# EAGLE library part SIM_CARD_NANO_GLOBAL_CONNECTOR_TEC_SIM8050-6-0-14-01-A (library konekt)
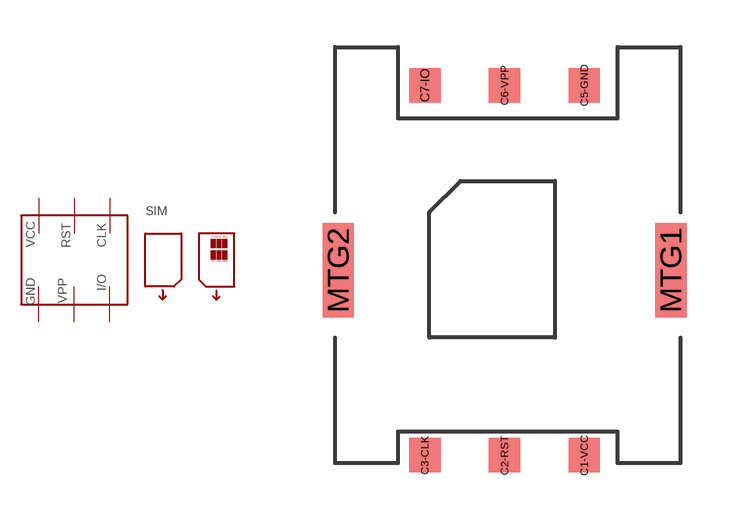
[diagram p3: symbol with the pads of SIM_CARD_NANO; footprint SIM_CARD_NANO]

Designator prefix SIM

## SIM_CARD_NANO_GLOBAL_CONNECTOR_TEC_SIM8050-6-0-14-01-A (MFG: Global Connector Technology; MPN: SIM8050-06-14-01-A)  [SIM_CARD_NANO]
C1-VCC  VCC
C2-RST  RST
C3-CLK  CLK
C5-GND  GND
C6-VPP  VCC2
C7-IO  IO
MTG1  NC1
MTG2  NC2

## Footprint SIM_CARD_NANO (pad centres in mm)
smd 1 x 1.1: C1-VCC 6.94,-1.75; C2-RST 4.4,-1.75; C3-CLK 1.86,-1.75; C5-GND 6.94,10.05; C6-VPP 4.4,10.05; C7-IO 1.86,10.05
smd 1 x 3: MTG1 9.7,4.15; MTG2 -0.9,4.15